# Altium footprint library SOD323.PcbLib: 1 footprints
Each footprint in its own frame and in the unit in brackets; x right, y up, seen from the top. Pads: shape width x height; smd on the part's side, far side on the other; paste and mask are expansions set on the pad; w line width, h text height; cw(c..) or ccw(c..) is an arc to the next point about the centre after c.
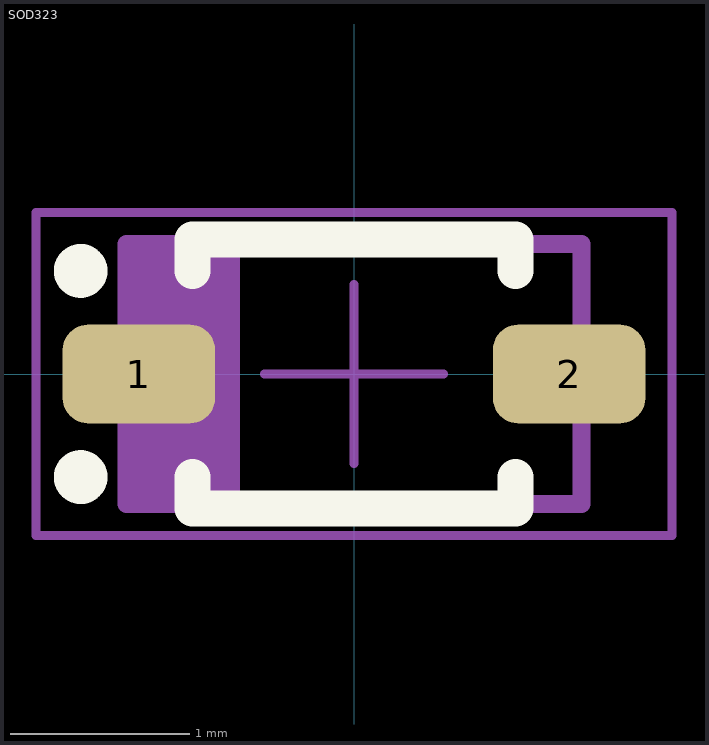
[diagram p0: the footprint, top view; thin cyan lines are the x and y axes]

## SOD323 [mm]
height 1.15
pads (2):
  rrect50% 0.85x0.55 smd mask+0.05: 1(-1.2,0) 2(1.2,0)
Top Overlay:
  circle w0.2: c-1.525,0.575 r0.05
  circle w0.2: c-1.525,-0.575 r0.05
  lines w0.2: -0.9,-0.575 -0.9,-0.75 0.9,-0.75 0.9,-0.575 ; -0.9,0.575 -0.9,0.75 0.9,0.75 0.9,0.575
Top Assembly:
  rectangle: -1.27,-0.725 -0.635,0.725
  lines w0.1: -1.27,-0.725 -1.27,0.725 1.27,0.725 1.27,-0.725 -1.27,-0.725
Top Courtyard:
  lines w0.05: -0.5,0 0.5,0 ; 0,-0.5 0,0.5 ; -1.775,-0.9 -1.775,0.9 1.775,0.9 1.775,-0.9 -1.775,-0.9
3D body "User Library-SOD323F-1.step": height 1, standoff 0, extent -1.25,-0.675 1.25,0.675